# Altium footprint library PCB Library.PcbLib: 22 footprints (part 2 of 2)
Each footprint in its own frame and in the unit in brackets; x right, y up, seen from the top. Pads: shape width x height; smd on the part's side, far side on the other; paste and mask are expansions set on the pad; w line width, h text height; cw(c..) or ccw(c..) is an arc to the next point about the centre after c.
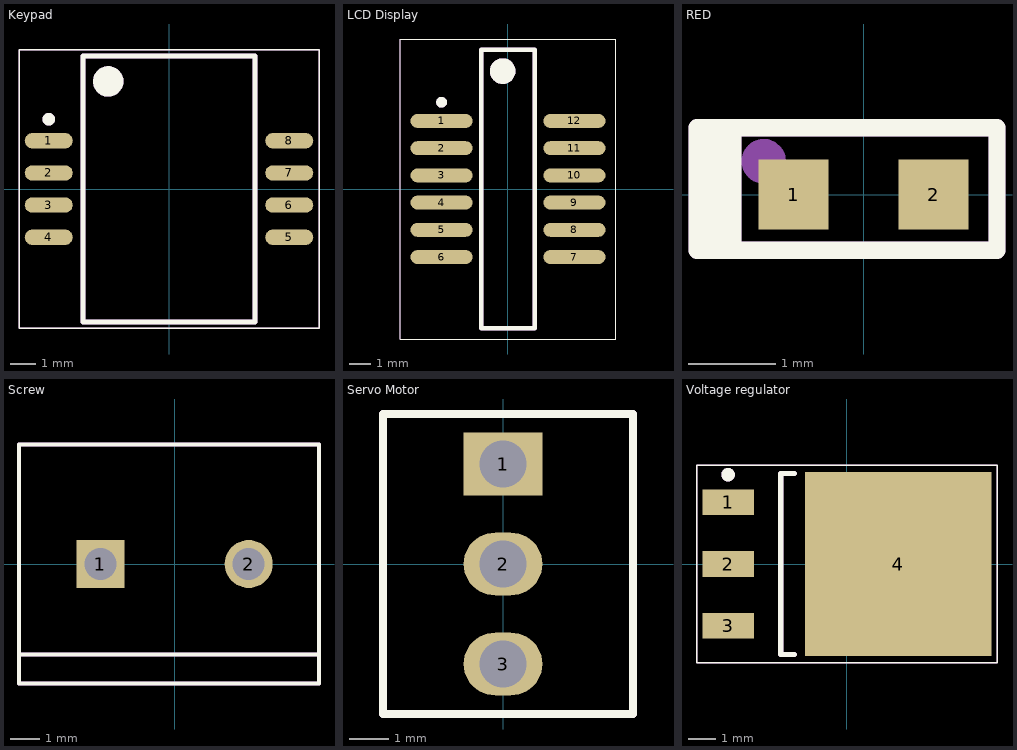
[diagram p1: the footprints below, top view; thin cyan lines are the x and y axes]

## Keypad [mm] "SOIC, 8-Leads, Body 10.30x7.50mm, Pitch 1.27mm, IPC Medium Density"
height 2.65
pads (8):
  oval 1.9x0.6 smd: 1(-4.75,1.905) 2(-4.75,0.635) 3(-4.75,-0.635) 4(-4.75,-1.905) 5(4.75,-1.905) 6(4.75,-0.635) 7(4.75,0.635) 8(4.75,1.905)
Top Overlay:
  circle w0.25: c-4.75,2.755 r0.125
  circle w0.6: c-2.4,4.25 r0.3
  lines w0.05: -5.925,-5.5 5.925,-5.5 5.925,5.5 -5.925,5.5 -5.925,-5.5
  lines w0.2: -3.4,-5.25 -3.4,5.25 3.4,5.25 3.4,-5.25 -3.4,-5.25
Mechanical 2:
  circle w0.6: c-2.4,4.25 r0.3
  circle w0.25: c-4.75,2.755 r0.125
  lines w0.05: -5.925,-5.5 -5.925,5.5 5.925,5.5 5.925,-5.5 -5.925,-5.5
  lines w0.2: -3.4,-5.25 3.4,-5.25 3.4,5.25 -3.4,5.25 -3.4,-5.25
  text "'.Designator'" at -2.54,0.762 h0.5
3D body "SOIC127P1030X265-8N.step": height 2.65, standoff 0, extent -5.15,-5.25 5.15,5.25

## LCD Display [mm] "SOJ, 12-Leads, Body 13.00x8.66mm, Pitch 1.27mm, IPC Low Density"
height 3.56
pads (12):
  oval 2.9x0.65 smd: 1(-3.1,3.175) 2(-3.1,1.905) 3(-3.1,0.635) 4(-3.1,-0.635) 5(-3.1,-1.905) 6(-3.1,-3.175) 7(3.1,-3.175) 8(3.1,-1.905) 9(3.1,-0.635) 10(3.1,0.635) 11(3.1,1.905) 12(3.1,3.175)
Top Overlay:
  circle w0.25: c-3.1,4.05 r0.125
  circle w0.6: c-0.25,5.5 r0.3
  lines w0.05: -5.025,-7 5.025,-7 5.025,7 -5.025,7 -5.025,-7
  lines w0.2: -1.25,-6.5 -1.25,6.5 1.25,6.5 1.25,-6.5 -1.25,-6.5
Mechanical 2:
  circle w0.6: c-0.25,5.5 r0.3
  circle w0.25: c-3.1,4.05 r0.125
  lines w0.05: -5.025,-7 -5.025,7 5.025,7 5.025,-7 -5.025,-7
  lines w0.2: -1.25,-6.5 1.25,-6.5 1.25,6.5 -1.25,6.5 -1.25,-6.5
  text "'.Designator'" at -0.889,1.27 h0.5
3D body "SOJ127P870X356-12M.step": height 3.56, standoff 0, extent -4.53,-6.5 4.53,6.5

## RED [mm]
pads (2):
  rect 0.8x0.8 smd: 1(-0.8,0) 2(0.8,0)
Top Overlay:
  rectangle: -1.905,-0.635 -1.397,0.762
  lines w0.2: -1.905,-0.635 -1.905,0.762 1.524,0.762 1.524,-0.635 -1.905,-0.635
Mechanical 2:
  circle w0.254: c-1.143,0.381 r0.127
  rectangle: -1.905,-0.635 -1.397,0.762
  lines w0.2: -1.905,-0.635 1.524,-0.635 1.524,0.762 -1.905,0.762 -1.905,-0.635
  text "'.Designator'" at -0.889,-0.254 h0.5
3D body "User Library-LED_0603_R.STEP": height 0.6, standoff 0, extent -0.8,-0.4 0.8,0.4

## Screw [mm]
pads (2):
  rect 1.65x1.65 hole 1.1: 1(-2.54,0)
  round 1.65 hole 1.1: 2(2.54,0)
Top Overlay:
  lines w0.127: -5.334,-3.1 4.953,-3.1 ; -5.334,-4.1 -5.334,-2.846 -5.334,4.1 4.953,4.1 4.953,-2.465 4.953,-4.1 -5.334,-4.1
Mechanical 2:
  lines w0.127: -5.334,-3.1 4.953,-3.1 ; -5.334,-4.1 4.953,-4.1 4.953,-2.465 4.953,4.1 -5.334,4.1 -5.334,-2.846 -5.334,-4.1
  text "'.Designator'" at -2.794,-0.508 h0.5
3D body "c-282837-2-g2-3d.stp": height 10.01, standoff -3.49, extent -5.253,-4.136 5.507,4.064

## Servo Motor [mm]
pads (3):
  rect 2x1.6 hole 1.2: 1(0,2.54)
  oval 2x1.6 hole 1.2: 2(0,0) 3(0,-2.54)
Top Overlay:
  lines w0.2: -3.048,-3.81 3.302,-3.81 3.302,3.81 -3.048,3.81 -3.048,-3.81
Mechanical 2:
  lines w0.2: -3.048,-3.81 -3.048,3.81 3.302,3.81 3.302,-3.81 -3.048,-3.81
  text "'.Designator'" at -2.286,-0.762 h0.5
3D body "022232031.stp": height 10.68, standoff -3.54, extent -3.099,-3.734 3.251,3.734

## Voltage regulator [mm] "D-PAK, 4-Pads, Body 6.20x6.72mm (max), IPC Medium Density"
height 2.38
pads (4):
  rect 1.9x0.95 smd: 1(-4.4,2.28) 2(-4.4,0) 3(-4.4,-2.28)
  rect 6.9x6.8 smd: 4(1.9,0)
Top Overlay:
  circle w0.25: c-4.4,3.305 r0.125
  lines w0.05: -5.55,-3.65 -5.55,3.65 5.55,3.65 5.55,-3.65 -5.55,-3.65
  lines w0.2: -1.95,-3.35 -2.45,-3.35 -2.45,3.35 -1.95,3.35
Mechanical 2:
  circle w0.25: c-4.4,3.305 r0.125
  lines w0.05: -5.55,-3.65 5.55,-3.65 5.55,3.65 -5.55,3.65 -5.55,-3.65
  lines w0.2: -1.95,-3.35 -2.45,-3.35 -2.45,3.35 -1.95,3.35
  text "'.Designator'" at -1.524,-0.254 h0.5
3D body "DPAK228P970X238-4N.step": height 2.38, standoff 0, extent -4.415,-3.35 5.285,3.35